# Altium footprint library Udemy_Library.PcbLib: 38 footprints (part 1 of 3)
Each footprint in its own frame and in the unit in brackets; x right, y up, seen from the top. Pads: shape width x height; smd on the part's side, far side on the other; paste and mask are expansions set on the pad; w line width, h text height; cw(c..) or ccw(c..) is an arc to the next point about the centre after c.
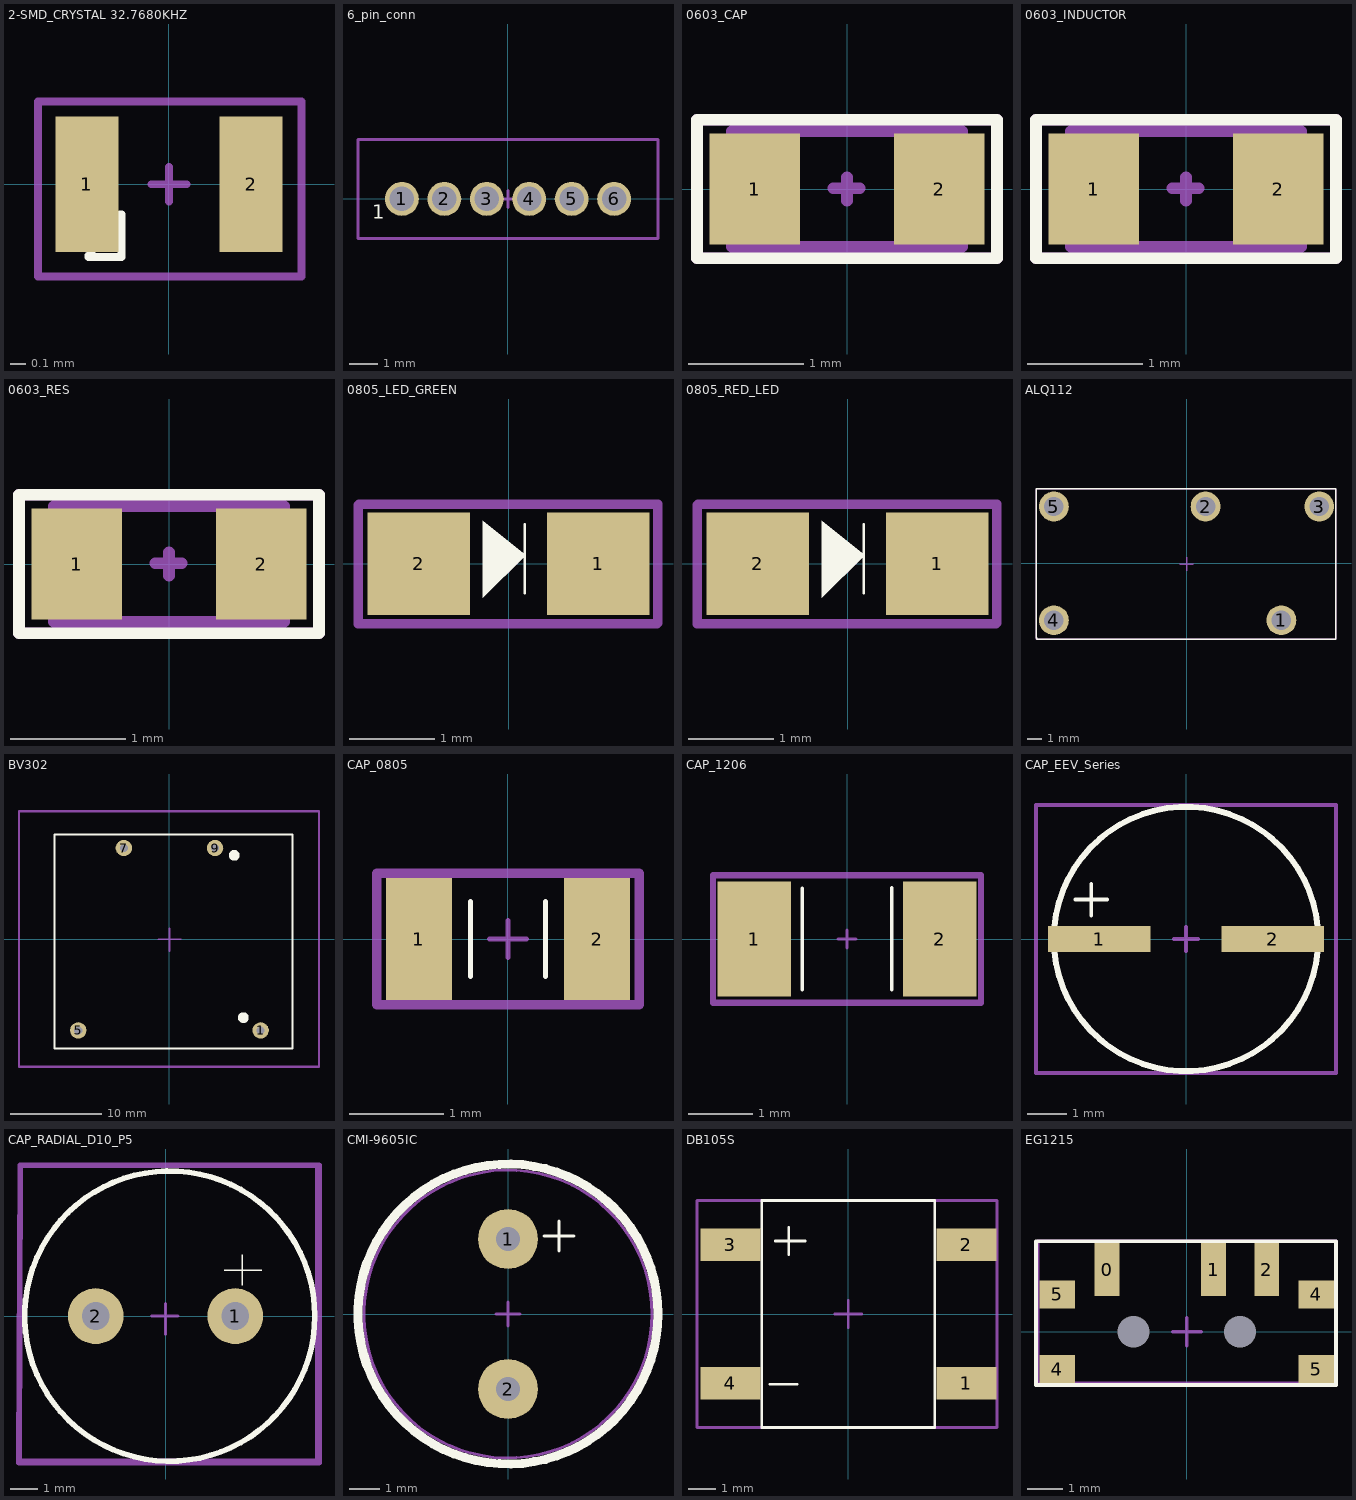
[diagram p0: the footprints below, top view; thin cyan lines are the x and y axes]

## 2-SMD_CRYSTAL 32.7680KHZ [mm]
pads (2):
  rect 0.4x0.86 smd mask+0.05: 1(-0.52,0) 2(0.52,0)
Top Overlay:
  lines w0.05: -0.51,-0.46 -0.3,-0.46 -0.3,-0.19 ; -0.51,-0.45 -0.31,-0.19
Top Component Center:
  lines w0.05: -0.11,0 0.11,0 ; 0,-0.11 0,0.11 ; -0.83,-0.585 -0.83,0.525 0.84,0.525 0.84,-0.585 -0.83,-0.585
Top Designator:
  lines w0.05: -0.83,-0.585 0.84,-0.585 0.84,0.525 -0.83,0.525 -0.83,-0.585
  text "d.Designator" at -0.56,-0.22 h0.15
3D body "2-SMD_ABS05-32.768KHZ-T.step": height 0.5, standoff 0, extent -0.8,-0.5 0.8,0.5

## 6_pin_conn [mm]
pads (6):
  round 1.2 hole 0.87 mask+0.05: 1(-3.75,0) 2(-2.25,0) 3(-0.75,0) 4(0.75,0) 5(2.25,0) 6(3.75,0)
Top Overlay:
  text "1" at -4.8,-0.7 h0.5
Top Component Center:
  lines w0.1: -0.3,0 0.3,0 ; 0,-0.3 0,0.3 ; -5.3,-1.4 5.3,-1.4 5.3,2.1 -5.3,2.1 -5.3,-1.4
Top Designator:
  lines w0.1: -5.3,-1.4 -5.3,2.1 5.3,2.1 5.3,-1.4 -5.3,-1.4
  text "d.Designator" at -1.7,1.467 h0.5
3D body "6pin_conn_64800611622 (rev1).stp": height 4.75, standoff -2.45, extent -5.25,-1.4 5.25,2.1

## 0603_CAP [mil]
pads (2):
  rect 31x38 smd mask+1.97: 1(-31.5,0) 2(31.5,0)
Top Overlay:
  lines w3.94: -51.18,-23.62 -51.18,23.62 51.18,23.62 51.18,-23.62 -51.18,-23.62
Top 3D Body:
  lines w3.94: -39.37,-19.68 -39.37,19.68 39.37,19.68 39.37,-19.68 -39.37,-19.68
Top Component Center:
  lines w3.94: -4.74,0.31 4.34,0.31 ; 0,-3.94 0,3.94 ; -51.18,-23.62 -51.18,23.62 51.18,23.62 51.18,-23.62 -51.18,-23.62
Top Designator:
  lines w3.94: -51.18,-23.62 -51.18,23.62 51.18,23.62 51.18,-23.62 -51.18,-23.62
  text ".Designator" at -25.59,-1.97 h11.81
3D body "CAPC0603.STEP": height 31.5, standoff 0, extent -41.35,-19.68 41.35,20.82

## 0603_INDUCTOR [mil]
pads (2):
  rect 31x38 smd mask+1.97: 1(-31.5,0) 2(31.5,0)
Top Overlay:
  lines w3.94: -51.18,-23.62 -51.18,23.62 51.18,23.62 51.18,-23.62 -51.18,-23.62
Top 3D Body:
  lines w3.94: -39.37,-19.68 -39.37,19.68 39.37,19.68 39.37,-19.68 -39.37,-19.68
Top Component Center:
  lines w3.94: -4.74,0.31 4.34,0.31 ; 0,-3.94 0,3.94 ; -51.18,-23.62 -51.18,23.62 51.18,23.62 51.18,-23.62 -51.18,-23.62
Top Designator:
  lines w3.94: -51.18,-23.62 -51.18,23.62 51.18,23.62 51.18,-23.62 -51.18,-23.62
  text ".Designator" at -25.59,-1.97 h11.81
3D body "0603-INDUCTOR_3DModel-STEP-402286.STEP": height 31.5, standoff 0, extent -29.99,-19.33 33,18.07

## 0603_RES [mil]
pads (2):
  rect 31x38 smd mask+1.97: 1(-31.5,0) 2(31.5,0)
Top Overlay:
  lines w3.94: -51.18,-23.62 51.18,-23.62 51.18,23.62 -51.18,23.62 -51.18,-23.62
Top 3D Body:
  lines w3.94: -39.37,-19.68 39.37,-19.68 39.37,19.68 -39.37,19.68 -39.37,-19.68
Top Component Center:
  lines w3.94: -4.74,0.31 4.34,0.31 ; 0,-3.94 0,3.94 ; -51.18,-23.62 51.18,-23.62 51.18,23.62 -51.18,23.62 -51.18,-23.62
Top Designator:
  lines w3.94: -51.18,-23.62 51.18,-23.62 51.18,23.62 -51.18,23.62 -51.18,-23.62
  text ".Designator" at -25.59,-1.97 h11.81
3D body "0603S1.STEP": height 16.89, standoff -0.83, extent -38.92,-18.87 38.92,19.69

## 0805_LED_GREEN [mm]
pads (2):
  rect 1.2x1.2 smd mask+0.05: 1(1.05,0) 2(-1.05,0)
Top Overlay:
  region: -0.3,0.5 -0.3,-0.4 0.2,0.1
  lines w0.025: 0.191,-0.35 0.191,0.464
Top Component Center:
  lines w0.025: -0.1,0 0.1,0 ; 0,-0.1 0,0.1
  lines w0.1: -1.756,-0.7 -1.756,0.7 1.75,0.7 1.75,-0.7 -0.3,-0.7 -0.3,-0.7 -1.756,-0.7
Top Designator:
  lines w0.1: -1.762,-0.71 -0.307,-0.71 -0.306,-0.71 1.744,-0.71 1.744,0.69 -1.762,0.69 -1.762,-0.71
  text "d.Designator" at -0.943,0.007 h0.4
3D body "0805LED-GREEN.step": height 1.1, standoff -0.01, extent -1,-0.625 1,0.625

## 0805_RED_LED [mm]
pads (2):
  rect 1.2x1.2 smd mask+0.05: 1(1.05,0) 2(-1.05,0)
Top Overlay:
  region: -0.3,0.5 -0.3,-0.4 0.2,0.1
  lines w0.025: 0.191,-0.35 0.191,0.464
Top Component Center:
  lines w0.025: -0.1,0 0.1,0 ; 0,-0.1 0,0.1
  lines w0.1: -1.756,-0.7 -0.3,-0.7 -0.3,-0.7 1.75,-0.7 1.75,0.7 -1.756,0.7 -1.756,-0.7
Top Designator:
  lines w0.1: -1.762,-0.71 -1.762,0.69 1.744,0.69 1.744,-0.71 -0.306,-0.71 -0.307,-0.71 -1.762,-0.71
  text "d.Designator" at -0.943,0.007 h0.4
3D body "0805LED-red.step": height 1.15, standoff 0.04, extent -1,-0.625 1,0.625

## ALQ112 [mm]
pads (5):
  round 2 hole 1.3 mask+0.05: 1(6.35,-3.81) 2(1.27,3.81) 3(8.89,3.81) 4(-8.89,-3.81) 5(-8.89,3.81)
Top Overlay:
  lines w0.1: -10.09,-4.99 -9.99,-5.09 10.01,-5.09 10.01,5.01 -10.09,5.01 -10.09,-4.99
Top 3D Body:
  lines w0.1: -10.09,-5.09 10.01,-5.09 10.01,5.01 -10.09,5.01 -10.09,-5.09
Top Component Center:
  lines w0.1: -0.45,-0.05 0.45,-0.05 ; 0,-0.5 0,0.4 ; -10.09,-4.99 -10.09,5.01 10.01,5.01 10.01,-5.09 -9.99,-5.09 -10.09,-4.99
Top Designator:
  lines w0.1: -10.09,-4.99 -10.09,5.01 10.01,5.01 10.01,-5.09 -9.99,-5.09 -10.09,-4.99
  text "d.Designator" at -7.69,-0.182 h1.52
3D body: height -0.4, standoff -0.4, extent -9.138,-4.059 -8.64,-3.56
3D body: height -0.4, standoff -0.4, extent -9.138,3.561 -8.64,4.06
3D body: height 15.6, standoff 0.4, extent 7.91,-3.89 9.01,-2.99
3D body: height 15.6, standoff 0.4, extent -10.08,-5 9.92,5
3D body: height -0.4, standoff -4.2, extent 6.2,-4.21 6.5,-3.41
3D body: height -0.4, standoff -4.2, extent 1.12,3.41 1.42,4.21
3D body: height -0.4, standoff -4.2, extent 8.74,3.41 9.04,4.21

## BV302 [mm]
pads (4):
  round 1.8 hole 0.9 mask+0.05: 1(10,-10) 5(-10,-10) 7(-5,10) 9(5,10)
Top Overlay:
  circle w0.6: c7.1,9.2 r0.283
  circle w0.6: c8.1,-8.6 r0.283
  lines w0.2: -12.6,-12 13.5,-12 13.5,11.5 -12.6,11.5 -12.6,-12
Top Component Center:
  lines w0.2: -1.2,0 1.3,0 ; 0,-1.3 0,1.2 ; -16.5,-14 16.4,-14 16.4,14 -16.5,14 -16.5,-13.9 -16.5,-14
Top Designator:
  lines w0.2: -16.5,-13.95 16.3,-13.95 16.4,-13.95 16.4,14.05 -16.5,14.05 -16.5,-13.85 -16.5,-13.95
  text "d.Designator" at -8.3,2.308 h1.52
3D body "ZETTLER BV301 BV302 v1.step": height 14.2, standoff -6.3, extent -16.4,-13.9 16.4,13.9

## CAP_0805 [mm]
pads (2):
  rect 0.7x1.3 smd mask+0.05: 1(-0.95,0) 2(0.95,0)
Top Overlay:
  lines w0.05: -0.4,-0.4 -0.4,0.4 ; 0.4,-0.4 0.4,0.4
Top Component Center:
  lines w0.05: -0.2,0 0.2,0 ; 0,-0.2 0,0.2
  lines w0.1: -1.4,-0.7 1.4,-0.7 1.4,0.7 -1.4,0.7 -1.4,-0.7
Top Designator:
  lines w0.1: -1.4,-0.7 1.4,-0.7 1.4,0.7 -1.4,0.7 -1.4,-0.7
  text "d.Designator" at -1.39,0.027 h0.05
3D body "CAPC0805.STEP": height 0.9, standoff 0, extent -1.301,-0.678 1.301,0.678

## CAP_1206 [mm]
pads (2):
  rect 1.15x1.8 smd mask+0.05: 1(-1.45,0) 2(1.45,0)
Top Overlay:
  lines w0.05: -0.7,-0.8 -0.7,0.8 ; 0.701,-0.797 0.701,0.803
Top Component Center:
  lines w0.05: -0.14,0 0.139,0 ; 0,-0.14 0,0.139
  lines w0.1: -2.1,-1 2.1,-1 2.1,1 -2.1,1 -2.1,-1
Top Designator:
  lines w0.1: -2.1,-1 2.1,-1 2.1,1 -2.1,1 -2.1,-1
  text "d.Designator" at 1.031,-0.02 h0.2
3D body "CAPC1206.STEP": height 1.3, standoff -0.01, extent -1.974,-0.976 1.975,0.976

## CAP_EEV_Series [mm]
pads (2):
  rect 2.6x0.65 smd mask+0.05: 1(-2.2,0) 2(2.2,0)
Top Overlay:
  circle w0.15: c0,0 r3.35
  lines w0.1: -2.8,1 -2,1 ; -2.4,0.6 -2.4,1.4
Top Component Center:
  lines w0.1: -0.3,0 0.3,0 ; 0,-0.3 0,0.3 ; -3.8,-3.4 3.8,-3.4 3.8,3.4 -3.8,3.4 -3.8,-3.4
Top Designator:
  lines w0.1: -3.8,-3.4 -3.8,3.4 3.8,3.4 3.8,-3.4 -3.8,-3.4
  text "d.Designator" at -1.8,-1.467 h0.4
3D body "EEV686M035A9HAA.step": height 8.06, standoff 0.05, extent -3.8,-3.4 3.8,3.4

## CAP_RADIAL_D10_P5 [mm]
pads (2):
  round 2 hole 1 mask+0.05: 1(2.5,0) 2(-2.5,0)
Top Overlay:
  circle w0.2: c0.15,0 r5.2
  lines w0.05: 2.1,1.65 3.45,1.65 ; 2.75,1.1 2.75,2.2
Top Component Center:
  lines w0.1: -0.5,0 0.45,0 ; 0,-0.65 0,0.45
  lines w0.2: -5.25,-5.25 5.5,-5.25 5.5,5.4 -5.2,5.4 -5.25,-5.25
Top Designator:
  lines w0.2: -5.25,-5.2 5.45,-5.2 5.45,5.4 -5.2,5.4 -5.25,-5.2
  text "d.Designator" at -1.65,-1.933 h0.5
3D body "CAP_ESH_H4_KEM.step": height 22.01, standoff -4.37, extent -5.114,-5.195 5.4,5.295

## CMI-9605IC [mm]
pads (2):
  round 2 hole 0.8: 1(0,2.5) 2(0,-2.5)
Top Overlay:
  circle w0.3: c0,0 r5
  lines w0.1: 1.2,2.6 2.2,2.6 ; 1.7,2.1 1.7,3.1
Top Component Center:
  circle w0.1: c0,0 r4.8
  lines w0.1: -0.4,0 0.4,0 ; 0,-0.4 0,0.4
Top Designator:
  circle w0.1: c0,0 r4.8
  text "d.Designator" at -0.8,-0.367 h0.4
3D body: height 5.1, standoff 0.1, extent -4.8,-4.797 4.8,4.797
3D body: height 0, standoff 0, extent -0.297,2.201 0.3,2.8
3D body: height 0, standoff 0, extent -0.297,-2.799 0.3,-2.2
3D body: height 5.15, standoff 5.1, extent -3.3,-3.3 3.3,3.3

## DB105S [mm]
pads (4):
  rect 2.22x1.2 smd mask+0.05: 1(4.365,-2.56) 2(4.365,2.56) 3(-4.365,2.56) 4(-4.365,-2.56)
Top Overlay:
  lines w0.1: -2.9,-2.6 -1.9,-2.6 ; -2.7,2.7 -1.6,2.7 ; -2.2,2.2 -2.2,3.2 ; -3.2,-4.2 -3.2,4.2 3.2,4.2 3.2,-4.2 -3.2,-4.2
Top Component Center:
  lines w0.1: -0.5,0 0.5,0 ; 0,-0.5 0,0.5 ; -5.6,-4.2 -5.6,4.2 5.5,4.2 5.5,4.1 5.5,-4.2 -5.6,-4.2
Top Designator:
  lines w0.1: -5.6,-4.2 -5.6,4.2 5.5,4.2 5.5,4.1 5.5,-4.2 -5.6,-4.2
  text "d.Designator" at -2.9,0.333 h0.7
3D body "DB107S  DB-S.step": height 2.66, standoff 0, extent -5.2,-4.16 5.2,4.16

## EG1215 [mm]
pads (9):
  rect 0.7x1.5 smd mask+0.05: 0(-2.25,1.75) 1(0.75,1.75) 2(2.25,1.75)
  round 0 hole 0.9 mask+0.05: 2(-1.5,0) 2(1.5,0)
  rect 1x0.8 smd mask+0.05: 4(-3.65,-1.05) 4(3.65,1.05) 5(-3.65,1.05) 5(3.65,-1.05)
Top Overlay:
  lines w0.1: -4.25,-1.5 -4.25,2.55 4.2,2.55 4.2,2.5 4.2,-1.5 -4.25,-1.5
Top Component Center:
  lines w0.1: -0.4,0 0.4,0 ; 0,-0.4 0,0.4 ; -4.2,-1.45 -4.2,-1.35 -4.2,2.55 4.2,2.55 4.2,-1.45 -4.2,-1.45
Top Designator:
  lines w0.1: -4.2,-1.45 4.2,-1.45 4.2,2.55 -4.2,2.55 -4.2,-1.35 -4.2,-1.45
  text "d.Designator" at -2.4,0.467 h0.5
3D body "EG1215AA--3DModel-STEP-1.STEP": height 1.4, standoff -0.3, extent -3.85,-2.7 3.85,2.2